# Altium schematic symbol library Bus_M.2_Socket_E.SchLib: 1 symbol
Pins are listed as number, name and electrical type; pins without a type are passive.

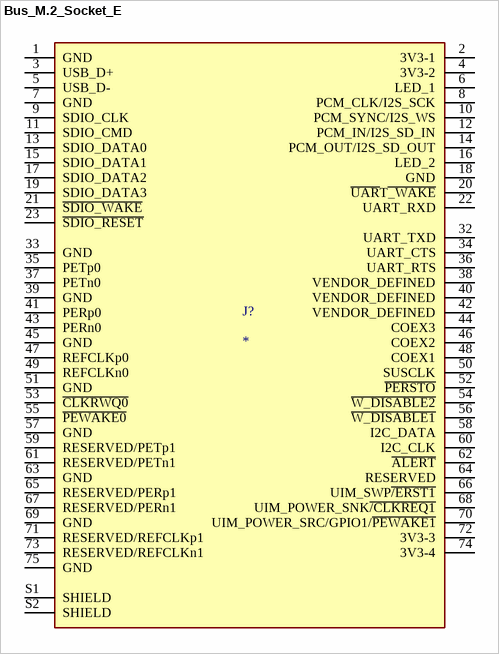
[diagram p0: symbol Bus_M.2_Socket_E]

## Bus_M.2_Socket_E
designator J?
PCIe M.2 Connectors, Storage and Server Connector, P=0.5mm, H=3.2mm, Key E,30Î¼in Au Plating; MP: MDT320E01001; MF: Amphenol ICC; Package: None; SnapEDA_Link: https://www.snapeda.com/parts/MDT320E01001/Amphenol+FCI/view-part/?ref=snap; Value: *; Purchase-URL: https://pricing.snapeda.com/search/part/MDT320E01001/?ref=eda; Check_prices: https://www.snapeda.com/parts/MDT320E01001/Amphenol+FCI/view-part/?ref=eda; Availability: In Stock; Price: None
footprint AMPHENOL_MDT320E01001
pins: 1 GND, 2 3V3-1 (power), 3 USB_D+, 4 3V3-2 (power), 5 USB_D-, 6 LED_1, 7 GND, 8 PCM_CLK/I2S_SCK, 9 SDIO_CLK, 10 PCM_SYNC/I2S_WS, 11 SDIO_CMD, 12 PCM_IN/I2S_SD_IN, 13 SDIO_DATA0, 14 PCM_OUT/I2S_SD_OUT, 15 SDIO_DATA1, 16 LED_2, 17 SDIO_DATA2, 18 GND, 19 SDIO_DATA3, 20 ~{UAR}T~{_WAKE}, 21 ~{SDIO_WAKE}, 22 UART_RXD, 23 ~{SDIO_RESET}, 32 UART_TXD, 33 GND, 34 UART_CTS, 35 PETp0, 36 UART_RTS, 37 PETn0, 38 VENDOR_DEFINED, 39 GND, 40 VENDOR_DEFINED, 41 PERp0, 42 VENDOR_DEFINED, 43 PERn0, 44 COEX3, 45 GND, 46 COEX2, 47 REFCLKp0, 48 COEX1, 49 REFCLKn0, 50 SUSCLK, 51 GND, 52 ~{PERSTO}, 53 ~{CLKRWQ0}, 54 ~{W_DISABLE2}, 55 ~{PEWAKE0}, 56 ~{W_DISABLE1}, 57 GND, 58 I2C_DATA, 59 RESERVED/PETp1, 60 I2C_CLK, 61 RESERVED/PETn1, 62 ~{ALERT}, 63 GND, 64 RESERVED, 65 RESERVED/PERp1, 66 UIM_SWP~{/ERST1}, 67 RESERVED/PERn1, 68 UIM_POWER_SNK~{/CLKREQ1}, 69 GND, 70 UIM_POWER_SRC/GPIO1/~{PEWAKE1}, 71 RESERVED/REFCLKp1, 72 3V3-3 (power), 73 RESERVED/REFCLKn1, 74 3V3-4 (power), 75 GND, S1 SHIELD, S2 SHIELD